# EAGLE library part ADG714_SEPERATE (library pmm)
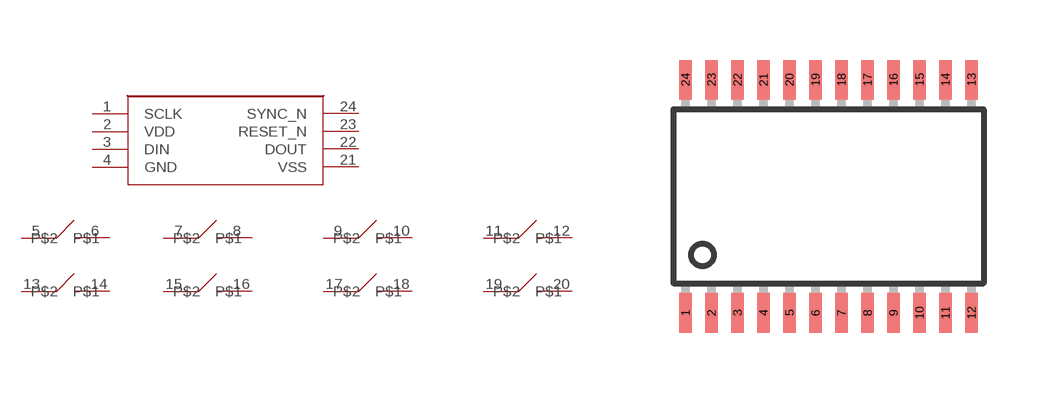
[diagram p1: symbol with the pads of TSSOP-24; footprint TSSOP-24]

Designator prefix -; gates G$1=SUPPORT G$2=SWITCH G$3=SWITCH G$4=SWITCH G$5=SWITCH G$6=SWITCH G$7=SWITCH G$8=SWITCH G$9=SWITCH

## ADG714_SEPERATE  [TSSOP-24]
1  G$1:SCLK
2  G$1:VDD
3  G$1:DIN
4  G$1:GND
5  G$2:P$1
6  G$2:P$2
7  G$3:P$1
8  G$3:P$2
9  G$4:P$1
10  G$4:P$2
11  G$5:P$1
12  G$5:P$2
13  G$6:P$1
14  G$6:P$2
15  G$7:P$1
16  G$7:P$2
17  G$8:P$1
18  G$8:P$2
19  G$9:P$1
20  G$9:P$2
21  G$1:VSS
22  G$1:DOUT
23  G$1:RESET_N
24  G$1:SYNC_N

## Footprint TSSOP-24 (pad centres in mm)
24-Lead Thin Shrink Small Outline Package TSSOP (RU-24) Source: http://www.analog.com/UploadedFiles/Data_Sheets/39677768AD7714_c.pdf
smd 0.305 x 0.991: 1 -3.575,-2.918; 2 -2.925,-2.918; 3 -2.275,-2.918; 4 -1.625,-2.918; 5 -0.975,-2.918; 6 -0.325,-2.918; 7 0.325,-2.918; 8 0.975,-2.918; 9 1.625,-2.918; 10 2.275,-2.918; 11 2.925,-2.918; 12 3.575,-2.918; 13 3.575,2.918; 14 2.925,2.918; 15 2.275,2.918; 16 1.625,2.918; 17 0.975,2.918; 18 0.325,2.918; 19 -0.325,2.918; 20 -0.975,2.918; 21 -1.625,2.918; 22 -2.275,2.918; 23 -2.925,2.918; 24 -3.575,2.918